# Altium schematic symbol library KAL25FB10R0.SchLib: 1 symbol
Pins are listed as number, name and electrical type; pins without a type are passive.

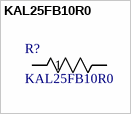
[diagram p0: symbol KAL25FB10R0]

## KAL25FB10R0
designator R?
No Description Available; Manufacturer_Name: Stackpole International; Copyright: Copyright (C) 2026 Ultra Librarian. All rights reserved.; Manufacturer_Part_Number: KAL25FB10R0
pins: 1, 2